# Altium schematic symbol library SamacSys.SchLib: 337 symbols (part 1 of 4)
Pins are listed as number, name and electrical type; pins without a type are passive.

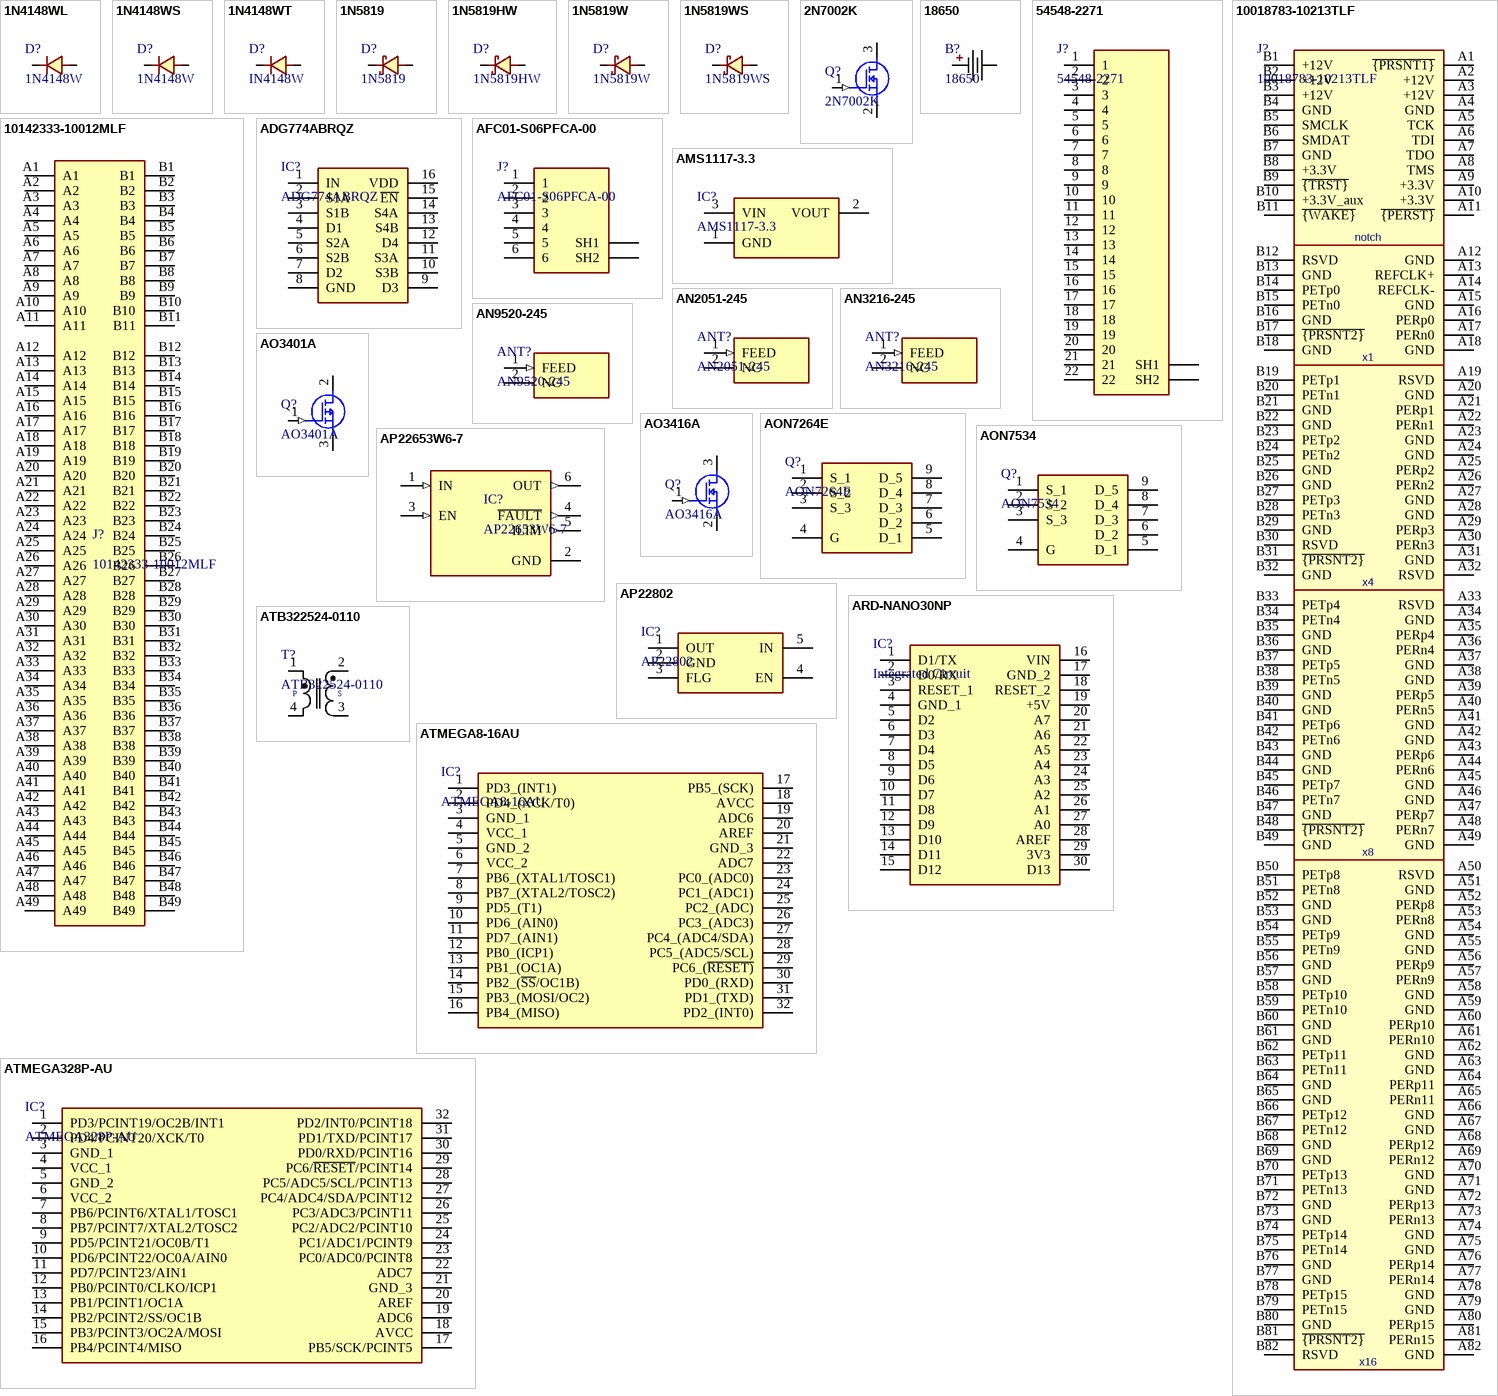
[diagram p0: symbols 1N4148WL to ATMEGA328P-AU]

## 1N4148WL
designator D?, comment 1N4148W
Diode, SMD, SOD-123FL, 100V, 150mA, 8ns, 1.25V@150mA, Independent Type, Switching Diodes, ROHS; Manufacturer_Name: Rectron; Datasheet Link: https://www.rectron.com/public/product_datasheets/1n4148w.pdf; Height: 1.25mm; Manufacturer_Part_Number: 1N4148W; Mouser Part Number: 583-1N4148W; Mouser Price/Stock: https://www.mouser.co.uk/ProductDetail/Rectron/1N4148W?qs=rrS6PyfT74dlwuw0ST2zKA%3D%3D; Arrow Part Number: 1N4148W; Arrow Price/Stock: https://www.arrow.com/en/products/1n4148w/rectron?region=nac; Value: 1N4148W
footprint SOD3716X125N
pins: 1 Kathode, 2 Anode

## 1N4148WS
designator D?, comment 1N4148W
Diode, SMD, SOD-323F, 100V, 250mA, 4ns, 1.25V@150mA, Independent Type, Switching Diodes ROHS; Manufacturer_Name: Rectron; Datasheet Link: https://www.rectron.com/public/product_datasheets/1n4148w.pdf; Height: 1.25mm; Manufacturer_Part_Number: 1N4148W; Mouser Part Number: 583-1N4148W; Mouser Price/Stock: https://www.mouser.co.uk/ProductDetail/Rectron/1N4148W?qs=rrS6PyfT74dlwuw0ST2zKA%3D%3D; Arrow Part Number: 1N4148W; Arrow Price/Stock: https://www.arrow.com/en/products/1n4148w/rectron?region=nac; Value: 1N4148W
footprint SODFL2513X100N
pins: 1 Kathode, 2 Anode

## 1N4148WT
designator D?, comment IN4148W
Diode, SMD, SOD-523, 80V, 125mA, 4ns, 1.25V@150mA, Independent Type, Switching Diodes, ROHS; Height: 0.7mm; Value: IN4148W
footprint SODFL1608X70N
pins: 1 Kathode, 2 Anode

## 1N5819
designator D?
Diode Schottky, DO-41, 30A, Independent, 40V, 900mV@3A, 1A, Single Diodes, RoHS; Datasheet Link: https://datasheet.lcsc.com/szlcsc/Shandong-Jingdao-Microelectronics-1N5819W_C169540.pdf; Height: 1.1mm; Value: 1N5819
footprint DO-41/DO-214AC_THD/SMD_THD
footprint DO-41_THD (DO-41 Package)
footprint DO-41/DO-214AC_VERTICAL_SMD/THD_THD (DO-41 Package)
pins: 1 Kathode, 2 Anode

## 1N5819HW
designator D?
Diode Schottky, SMD, SOD-123, 40V, 1A, 450mV@1A, Schottky Diodes, ROHS; Datasheet Link: https://datasheet.datasheetarchive.com/originals/distributors/Datasheets-24/DSA-463612.pdf; Height: 2.5mm; Value: 1N5819HW
footprint SOD3715X145N
pins: 1 Kathode, 2 Anode

## 1N5819W
designator D?
Diode Schottky, SMD, SOD-123, 40V, 350mA, 600mV@200mA, Independent Type, Schottky Diodes, ROHS; Datasheet Link: https://datasheet.lcsc.com/szlcsc/Shandong-Jingdao-Microelectronics-1N5819W_C169540.pdf; Height: 1.1mm; Value: 1N5819W
footprint SODFL3618X110N
pins: 1 Kathode, 2 Anode

## 1N5819WS
designator D?
Diode Schottky, SMD, SOD-323, 40V, 1A, 600mV@1A, Schottky Diodes, ROHS; Datasheet Link: https://datasheet.lcsc.com/szlcsc/Shandong-Jingdao-Microelectronics-1N5819W_C169540.pdf; Height: 1.1mm; Value: 1N5819WS
footprint SOD-323
pins: 1 Kathode, 2 Anode

## 2N7002K
designator Q?
MOSFET (N-Channel), SOT-23, 60V, 300mA, 2Ω@10V, 1.4W, 2.5V, MOSFETs, ROHS; Manufacturer_Name: Vishay; Manufacturer_Part_Number: SQ3426EV-T1_BE3; Datasheet Link: https://www.vishay.com/docs/65107/sq3426ev.pdf; Height: 1.1mm; Mouser Part Number: 78-SQ3426EV-T1_BE3; Mouser Price/Stock: https://www.mouser.co.uk/ProductDetail/Vishay-Siliconix/SQ3426EV-T1_BE3?qs=TiOZkKH1s2Qv9PW0sRGupQ%3D%3D; Arrow Part Number: SQ3426EV-T1_BE3; Arrow Price/Stock: https://www.arrow.com/en/products/sq3426ev-t1-be3/vishay?region=nac; Value: 2N7002K
footprint SOT95P240X120-3N
pins: 1 G (in), 2 S (power), 3 D (power)

## 18650
designator B?
Battery Holder 18650; Value: 18650
footprint 18650 SINGLE (18650, CR123A Battery Holder)
footprint 18650 CELL (18650, CR123A Battery Holder)
footprint 18650 2P HOLDER (18650, CR123A Battery Holder)
pins: 1 (power), 2 (power)

## 54548-2271
designator J?
FPC (Flat Flexible) Connector Assemblie, Drawer Type, 22P, Bottom Contact, Surface Mount, Horizontal attachment, 0.5mm SMD, P=0.5mm, Right Angle FFC, FPC (Flat Flexible) Connector Assemblies, ROHS; MF: Molex; Package: None; Value: 54548-2271; Price: None; MP: 54548-2271; SnapEDA_Link: https://www.snapeda.com/parts/54548-2271/Molex/view-part/2876175/?ref=snap; Availability: Unavailable
footprint MOLEX_54548-2271
pins: 1, 2, 3, 4, 5, 6, 7, 8, 9, 10, 11, 12, 13, 14, 15, 16, 17, 18, 19, 20, 21, 22, SH1, SH2

## 10018783-10213TLF
designator J?
Card Edge Connector, THD, 164 Positions, 1mm Pitch, PCI Express x16, Vertical, Card Edge Connectors, ROHS; MF: Amphenol ICC (FCI); MP: 10142333-10012MLF; SnapEDA_Link: https://www.snapeda.com/parts/10142333-10012MLF/Amphenol+FCI/view-part/?ref=snap; Package: None; Value: 10018783-10213TLF; Check_prices: https://www.snapeda.com/parts/10142333-10012MLF/Amphenol+FCI/view-part/?ref=eda
footprint AMPHENOL_10018783-10213TLF
pins: A1 ~{{PRSNT1}}, A2 +12V, A3 +12V, A4 GND, A5 TCK, A6 TDI, A7 TDO, A8 TMS, A9 +3.3V, A10 +3.3V, A11 ~{{PERST}}, A12 GND, A13 REFCLK+, A14 REFCLK-, A15 GND, A16 PERp0, A17 PERn0, A18 GND, A19 RSVD, A20 GND, A21 PERp1, A22 PERn1, A23 GND, A24 GND, A25 PERp2, A26 PERn2, A27 GND, A28 GND, A29 PERp3, A30 PERn3, A31 GND, A32 RSVD, A33 RSVD, A34 GND, A35 PERp4, A36 PERn4, A37 GND, A38 GND, A39 PERp5, A40 PERn5, A41 GND, A42 GND, A43 PERp6, A44 PERn6, A45 GND, A46 GND, A47 PERp7, A48 PERn7, A49 GND, A50 RSVD, A51 GND, A52 PERp8, A53 PERn8, A54 GND, A55 GND, A56 PERp9, A57 PERn9, A58 GND, A59 GND, A60 PERp10, A61 PERn10, A62 GND, A63 GND, A64 PERp11, A65 PERn11, A66 GND, A67 GND, A68 PERp12, A69 PERn12, A70 GND, A71 GND, A72 PERp13, A73 PERn13, A74 GND, A75 GND, A76 PERp14, A77 PERn14, A78 GND, A79 GND, A80 PERp15, A81 PERn15, A82 GND, B1 +12V, B2 +12V, B3 +12V, B4 GND, B5 SMCLK, B6 SMDAT, B7 GND, B8 +3.3V, B9 ~{{TRST}}, B10 +3.3V_aux, B11 ~{{WAKE}}, B12 RSVD, B13 GND, B14 PETp0, B15 PETn0, B16 GND, B17 ~{{PRSNT2}}, B18 GND, B19 PETp1, B20 PETn1, B21 GND, B22 GND, B23 PETp2, B24 PETn2, B25 GND, B26 GND, B27 PETp3, B28 PETn3, B29 GND, B30 RSVD, B31 ~{{PRSNT2}}, B32 GND, B33 PETp4, B34 PETn4, B35 GND, B36 GND, B37 PETp5, B38 PETn5, B39 GND, B40 GND, B41 PETp6, B42 PETn6, B43 GND, B44 GND, B45 PETp7, B46 PETn7, B47 GND, B48 ~{{PRSNT2}}, B49 GND, B50 PETp8, B51 PETn8, B52 GND, B53 GND, B54 PETp9, B55 PETn9, B56 GND, B57 GND, B58 PETp10, B59 PETn10, B60 GND, B61 GND, B62 PETp11, B63 PETn11, B64 GND, B65 GND, B66 PETp12, B67 PETn12, B68 GND, B69 GND, B70 PETp13, B71 PETn13, B72 GND, B73 GND, B74 PETp14, B75 PETn14, B76 GND, B77 GND, B78 PETp15, B79 PETn15, B80 GND, B81 ~{{PRSNT2}}, B82 RSVD
text: notch; x1; x4; x8; x16

## 10142333-10012MLF
designator J?
Card Edge Connector, THD, 98 Positions, 1mm Pitch, PCI Express x8, Vertical, Card Edge Connectors, ROHS; MF: Amphenol ICC (FCI); SnapEDA_Link: https://www.snapeda.com/parts/10142333-10012MLF/Amphenol+FCI/view-part/?ref=snap; Package: None; Value: 10142333-10012MLF; MP: 10142333-10012MLF; Check_prices: https://www.snapeda.com/parts/10142333-10012MLF/Amphenol+FCI/view-part/?ref=eda
footprint AMPHENOL_10142333-10012MLF
pins: A1, A2, A3, A4, A5, A6, A7, A8, A9, A10, A11, A12, A13, A14, A15, A16, A17, A18, A19, A20, A21, A22, A23, A24, A25, A26, A27, A28, A29, A30, A31, A32, A33, A34, A35, A36, A37, A38, A39, A40, A41, A42, A43, A44, A45, A46, A47, A48, A49, B1, B2, B3, B4, B5, B6, B7, B8, B9, B10, B11, B12, B13, B14, B15, B16, B17, B18, B19, B20, B21, B22, B23, B24, B25, B26, B27, B28, B29, B30, B31, B32, B33, B34, B35, B36, B37, B38, B39, B40, B41, B42, B43, B44, B45, B46, B47, B48, B49

## ADG774ABRQZ
designator IC?
Multiplexer, QSOP-16-150mil,  Analog Switches, Multiplexers, ROHS; Datasheet Link: http://www.analog.com/media/en/technical-documentation/data-sheets/ADG774A.pdf; Height: 1.75mm; Value: ADG774ABRQZ
footprint SOP64P600X175-16N
pins: 1 IN, 2 S1A, 3 S1B, 4 D1, 5 S2A, 6 S2B, 7 D2, 8 GND, 9 D3, 10 S3B, 11 S3A, 12 D4, 13 S4B, 14 S4A, 15 ~{EN}, 16 VDD

## AFC01-S06PFCA-00
designator J?
FPC (Flat Flexible) Connector Assemblie, Hinged Lid, 6P, Bottom Contact, Surface Mount, Right Angle, 0.5mm SMD, P=0.5mm, Surface Mount, Right Angle FFC, FPC (Flat Flexible) Connector Assemblies, ROHS; MF: Molex; MP: 54548-2271; Package: None; Value: AFC01-S06PFCA-00; Price: None; SnapEDA_Link: https://www.snapeda.com/parts/54548-2271/Molex/view-part/2876175/?ref=snap; Availability: Unavailable
footprint AFC01-S06PFCA-00
pins: 1, 2, 3, 4, 5, 6, SH1, SH2

## AMS1117-3.3
designator IC?
Low Drop Out (LDO) Regulator, SOT-223, SOT-89-3, 72dB@(120Hz), 1A, Fixed 3.3V, Positive electrode, 16V, Voltage Regulators - Linear, Low Drop Out (LDO) Regulators, ROHS; Datasheet Link: https://datasheet.datasheetarchive.com/originals/distributors/Datasheets-28/DSA-550594.pdf; Height: 1.8mm; Value: AMS1117-3.3
footprint SOT229P700X180-4N
footprint SOT-89-3 (SOT89, 3-Leads, Body 4.50x2.50mm, Pitch 1.50mm, Lead Span 3.3mm, IPC Medium Density)
pins: 1 GND, 2 VOUT, 3 VIN

## AN2051-245
designator ANT?
Antenna, SMD, 2x5.1mm, 2, 0.5dBi, 110MHz, 2.45GHz, Antennas ROHS; Manufacturer_Name: RAINBOW SW INDUSTRY  CO.,LIMITED; Datasheet Link: https://www.micros.com.pl/mediaserver/info-rf%20an2051-245.pdf; Height: 1.27mm; Manufacturer_Part_Number: AN2051-245; Value: AN2051-245
footprint ANTC2051
pins: 1 FEED (in), 2 NC

## AN3216-245
designator ANT?
Antenna, SMD, 1206, 2.5, 0.5dBi, 100MHz, 2.45GHz, 1W, Antennas ROHS; Manufacturer_Name: RAINBOW SW INDUSTRY  CO.,LIMITED; Manufacturer_Part_Number: AN2051-245; Datasheet Link: https://www.micros.com.pl/mediaserver/info-rf%20an2051-245.pdf; Height: 1.27mm; Value: AN3216-245
footprint ANTC3216
pins: 1 FEED (in), 2 NC

## AN9520-245
designator ANT?
Antenna, SMD, 2.1x9.5mm, 1.5dBi, Patch Antenna, 200MHz, 2.45GHz, 3W, Antennas ROHS; Manufacturer_Name: RAINBOW SW INDUSTRY  CO.,LIMITED; Manufacturer_Part_Number: AN2051-245; Datasheet Link: https://www.micros.com.pl/mediaserver/info-rf%20an2051-245.pdf; Height: 1.27mm; Value: AN9520-245
footprint ANTC9520
pins: 1 FEED (in), 2 NC

## AO3401A
designator Q?
MOSFET (P-Channel), SOT-23, 30V, 4A, 1.3V, P-channel MOSFETs, ROHS; MF: Alpha & Omega Semiconductor; SnapEDA_Link: https://www.snapeda.com/parts/AO3401A/Alpha/view-part/?ref=snap; Package: SOT-23 Alpha &amp; Omega Semiconductor; Value: AO3401A; MP: AO3401A; Check_prices: https://www.snapeda.com/parts/AO3401A/Alpha/view-part/?ref=eda
footprint SOT95P240X120-3N
pins: 1 G (in), 2 D (power), 3 S (power)

## AO3416A
designator Q?
MOSFET (N-Channel), SOT-23, 20V, 6.5A, 0.025Ω@4.5V, 1.4W, 1.1V, MOSFETs, ROHS; Manufacturer_Name: Vishay; Manufacturer_Part_Number: SQ3426EV-T1_BE3; Datasheet Link: https://www.vishay.com/docs/65107/sq3426ev.pdf; Height: 1.1mm; Mouser Part Number: 78-SQ3426EV-T1_BE3; Mouser Price/Stock: https://www.mouser.co.uk/ProductDetail/Vishay-Siliconix/SQ3426EV-T1_BE3?qs=TiOZkKH1s2Qv9PW0sRGupQ%3D%3D; Arrow Part Number: SQ3426EV-T1_BE3; Arrow Price/Stock: https://www.arrow.com/en/products/sq3426ev-t1-be3/vishay?region=nac; Value: AO3416A
footprint SOT95P240X120-3N
pins: 1 G (in), 2 S (power), 3 D (power)

## AON7264E
designator Q?
MOSFET (N-Channel), DFN-8(3x3), 60V, 28A, 11W, 13.3mΩ@4.5V, 28A, 1.8V, 1 N-channel, MOSFETs, ROHS; Value: AON7264E
footprint DFN-8-EP(3x3)
pins: 1 S_1, 2 S_2, 3 S_3, 4 G, 5 D_1, 6 D_2, 7 D_3, 8 D_4, 9 D_5

## AON7534
designator Q?
MOSFET (N-Channel), DFN-8(3x3), 30V, 30A, 23W, 8.5mΩ@4.5V, 30A, 1.8V, 1 N-channel, MOSFETs, ROHS; Manufacturer_Name: Alpha & Omega Semiconductors; Datasheet Link: http://www.aosmd.com/res/data_sheets/AON7534.pdf; Height: 0.9mm; Manufacturer_Part_Number: AON7534; Arrow Part Number: AON7534; Arrow Price/Stock: https://www.arrow.com/en/products/aon7534/alpha-and-omega-semiconductor?utm_currency=USD&region=nac; Value: AON7534
footprint DFN-8-EP(3x3)
pins: 1 S_1, 2 S_2, 3 S_3, 4 G, 5 D_1, 6 D_2, 7 D_3, 8 D_4, 9 D_5

## AP22653W6-7
designator IC?
Power Distribution Switch, SOT-26, 1, Active High, 2.1A, High Side, Switch Power Distribution Switches, Load Drivers, RoHS; MF: Diodes Incorporated; SnapEDA_Link: https://www.snapeda.com/parts/AP22653W6-7/Diodes+Inc./view-part/?ref=snap; Package: SOT-23-6 Diodes Incorporated; Value: AP22653W6-7; MP: AP22653W6-7; Check_prices: https://www.snapeda.com/parts/AP22653W6-7/Diodes+Inc./view-part/?ref=eda
footprint SOT95P280X145-6N
pins: 1 IN (in), 2 GND (power), 3 EN (in), 4 ~{FAULT} (out), 5 ILIM (out), 6 OUT (out)

## AP22802
designator IC?
Power Distribution Switch, SOT-23-5, SOT-25, 2.7V~5.5V, 50mΩ, Active Low, 2A, 1 High-side switch, Power Distribution Switches, ROHS; Value: AP22802
footprint SOT95P285X145-5N
pins: 1 OUT (power), 2 GND (power), 3 FLG (power), 4 EN (power), 5 IN (power)

## ARD-NANO30NP
designator IC?, comment Integrated Circuit
Development Board, Arduino Nano v3.0; Datasheet Link: http://www.mouser.com/datasheet/2/595/Arduino_Nano3_0-220057.pdf; Height: 5mm; Value: Integrated Circuit
footprint ARDNANO30NP
pins: 1 D1/TX, 2 D0/RX, 3 RESET_1, 4 GND_1, 5 D2, 6 D3, 7 D4, 8 D5, 9 D6, 10 D7, 11 D8, 12 D9, 13 D10, 14 D11, 15 D12, 16 VIN, 17 GND_2, 18 RESET_2, 19 +5V, 20 A7, 21 A6, 22 A5, 23 A4, 24 A3, 25 A2, 26 A1, 27 A0, 28 AREF, 29 3V3, 30 D13

## ATB322524-0110
designator T?
Power Transformer, SMD-4P, 1:10.2, 3.2x2.5mm, Power Transformers, ROHS; MF: TDK; SnapEDA_Link: https://www.snapeda.com/parts/ATB322524-0110/TDK/view-part/?ref=snap; Package: None; Value: ATB322524-0110; MP: ATB322524-0110; Check_prices: https://www.snapeda.com/parts/ATB322524-0110/TDK/view-part/?ref=eda
footprint ATB322524
pins: 1, 2, 3, 4
text: P; S

## ATMEGA8-16AU
designator IC?
Microcontroller, TQFP-32(7x7), 8-bit AVR, 16MHz, Microcontrollers (MCU/MPU/SOC), ROHS; Datasheet Link: http://ww1.microchip.com/downloads/en/DeviceDoc/Atmel-2486-8-bit-AVR-microcontroller-ATmega8_L_datasheet.pdf; Height: 1.2mm; Value: ATMEGA8-16AU
footprint QFP80P900X900X120-32N
pins: 1 PD3_(INT1), 2 PD4_(XCK/T0), 3 GND_1, 4 VCC_1, 5 GND_2, 6 VCC_2, 7 PB6_(XTAL1/TOSC1), 8 PB7_(XTAL2/TOSC2), 9 PD5_(T1), 10 PD6_(AIN0), 11 PD7_(AIN1), 12 PB0_(ICP1), 13 PB1_(OC1A), 14 PB2_(~{SS}/OC1B), 15 PB3_(MOSI/OC2), 16 PB4_(MISO), 17 PB5_(SCK), 18 AVCC, 19 ADC6, 20 AREF, 21 GND_3, 22 ADC7, 23 PC0_(ADC0), 24 PC1_(ADC1), 25 PC2_(ADC), 26 PC3_(ADC3), 27 PC4_(ADC4/SDA), 28 PC5_(ADC5/SCL), 29 PC6_(~{RESET)}, 30 PD0_(RXD), 31 PD1_(TXD), 32 PD2_(INT0)

## ATMEGA328P-AU
designator IC?
Microcontroller, TQFP-32(7x7), AVR, 20MHz, Microcontrollers (MCU/MPU/SOC), ROHS; Datasheet Link: https://componentsearchengine.com/Datasheets/2/ATMEGA328P-AU.pdf; Height: 1.2mm; Value: ATMEGA328P-AU
footprint QFP80P900X900X120-32N
footprint QFP80P900X900X120-32N WITH SPI INTERFACE 2.00
footprint QFP80P900X900X120-32N WITH SPI INTERFACE 2.54
footprint QFN50P500X500X100-33N-D
pins: 1 PD3/PCINT19/OC2B/INT1, 2 PD4/PCINT20/XCK/T0, 3 GND_1, 4 VCC_1, 5 GND_2, 6 VCC_2, 7 PB6/PCINT6/XTAL1/TOSC1, 8 PB7/PCINT7/XTAL2/TOSC2, 9 PD5/PCINT21/OC0B/T1, 10 PD6/PCINT22/OC0A/AIN0, 11 PD7/PCINT23/AIN1, 12 PB0/PCINT0/CLKO/ICP1, 13 PB1/PCINT1/OC1A, 14 PB2/PCINT2/SS/OC1B, 15 PB3/PCINT3/OC2A/MOSI, 16 PB4/PCINT4/MISO, 17 PB5/SCK/PCINT5, 18 AVCC, 19 ADC6, 20 AREF, 21 GND_3, 22 ADC7, 23 PC0/ADC0/PCINT8, 24 PC1/ADC1/PCINT9, 25 PC2/ADC2/PCINT10, 26 PC3/ADC3/PCINT11, 27 PC4/ADC4/SDA/PCINT12, 28 PC5/ADC5/SCL/PCINT13, 29 PC6/~{RESET}/PCINT14, 30 PD0/RXD/PCINT16, 31 PD1/TXD/PCINT17, 32 PD2/INT0/PCINT18

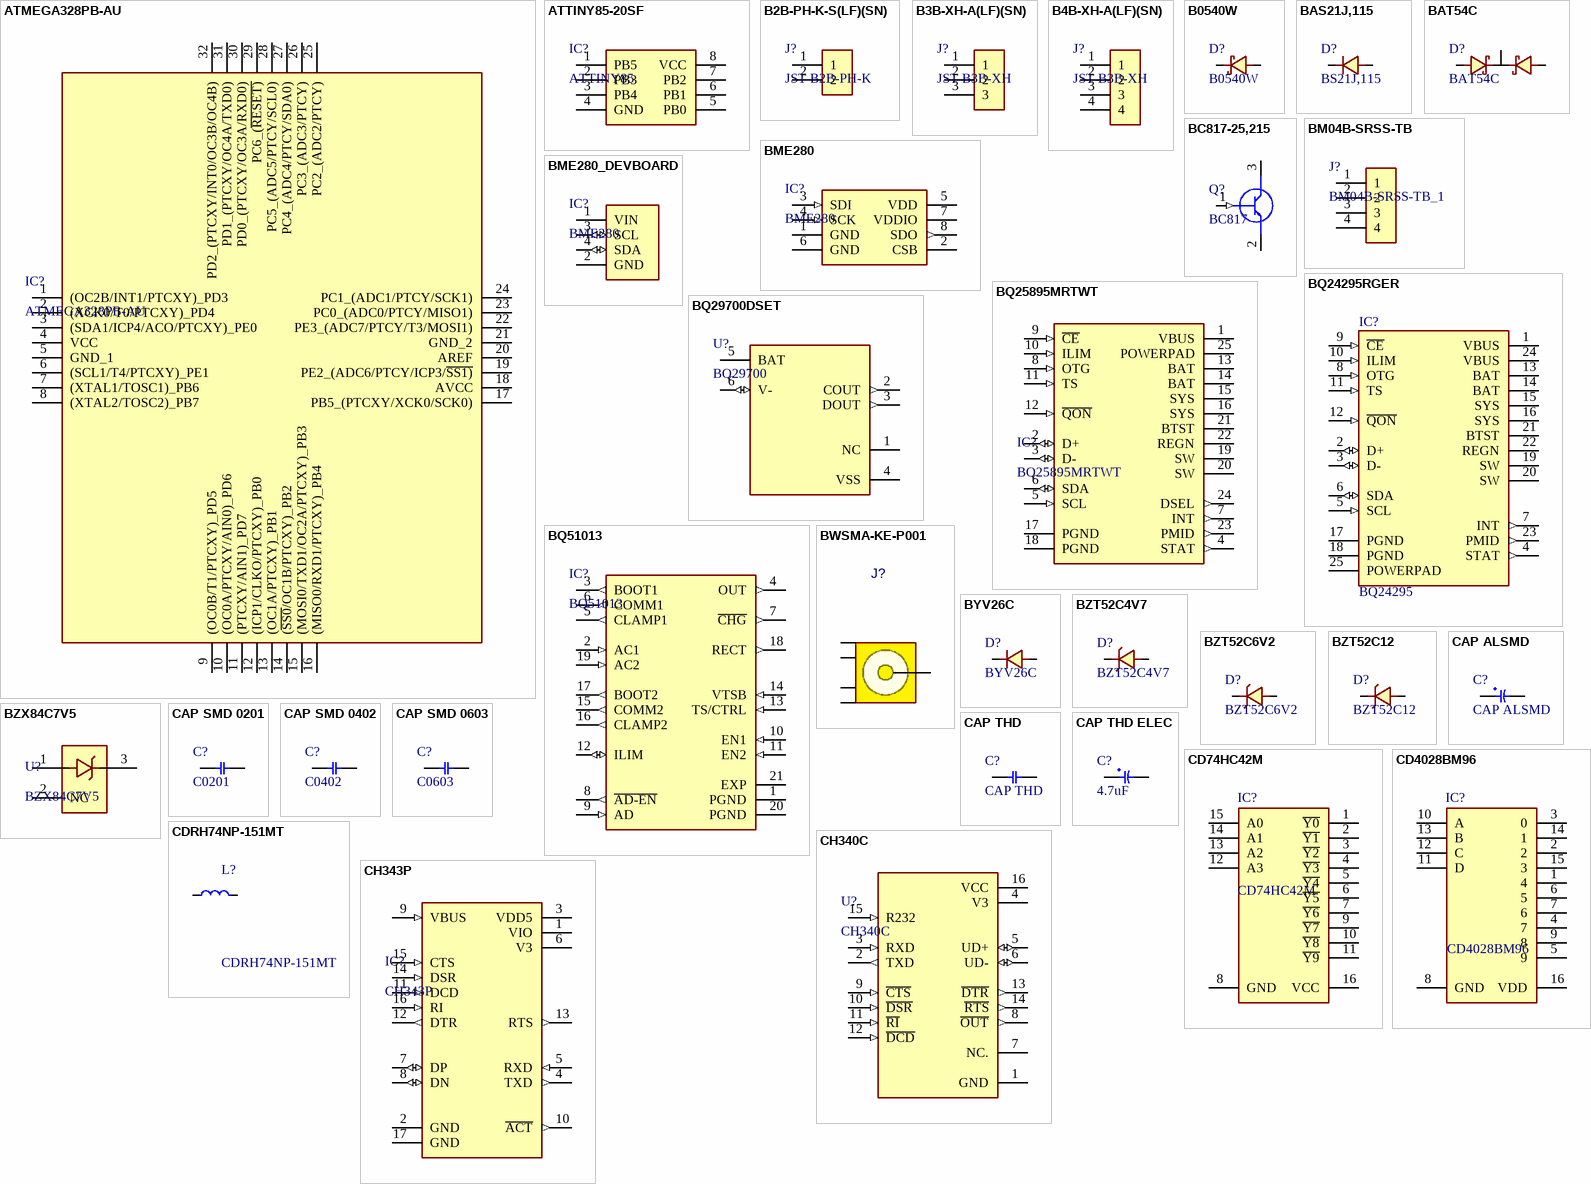
[diagram p1: symbols ATMEGA328PB-AU to CH343P]

## ATMEGA328PB-AU
designator IC?
Microcontroller, TQFP-32(7x7), AVR, 20MHz, Microcontrollers (MCU/MPU/SOC), ROHS; Datasheet Link: http://www.farnell.com/datasheets/2014286.pdf; Height: 1.2mm; Value: ATMEGA328PB-AU
footprint QFP80P900X900X120-32N
footprint QFP80P900X900X120-32N WITH SPI INTERFACE 2.00
footprint QFP80P900X900X120-32N WITH SPI INTERFACE 2.54
pins: 1 (OC2B/INT1/PTCXY)_PD3, 2 (XCK0/T0/PTCXY)_PD4, 3 (SDA1/ICP4/ACO/PTCXY)_PE0, 4 VCC, 5 GND_1, 6 (SCL1/T4/PTCXY)_PE1, 7 (XTAL1/TOSC1)_PB6, 8 (XTAL2/TOSC2)_PB7, 9 (OC0B/T1/PTCXY)_PD5, 10 (OC0A/PTCXY/AIN0)_PD6, 11 (PTCXY/AIN1)_PD7, 12 (ICP1/CLKO/PTCXY)_PB0, 13 (OC1A/PTCXY)_PB1, 14 (~{SS0}/OC1B/PTCXY)_PB2, 15 (MOSI0/TXD1/OC2A/PTCXY)_PB3, 16 (MISO0/RXD1/PTCXY)_PB4, 17 PB5_(PTCXY/XCK0/SCK0), 18 AVCC, 19 PE2_(ADC6/PTCY/ICP3/~{SS1)}, 20 AREF, 21 GND_2, 22 PE3_(ADC7/PTCY/T3/MOSI1), 23 PC0_(ADC0/PTCY/MISO1), 24 PC1_(ADC1/PTCY/SCK1), 25 PC2_(ADC2/PTCY), 26 PC3_(ADC3/PTCY), 27 PC4_(ADC4/PTCY/SDA0), 28 PC5_(ADC5/PTCY/SCL0), 29 PC6_(~{RESET)}, 30 PD0_(PTCXY/OC3A/RXD0), 31 PD1_(PTCXY/OC4A/TXD0), 32 PD2_(PTCXY/INT0/OC3B/OC4B)

## ATTINY85-20SF
designator IC?, comment ATTINY85
Microcontroller, SOIC-8-208mil, AVR, 20MHz, Microcontrollers (MCU/MPU/SOC), ROHS; Datasheet Link: http://ww1.microchip.com/downloads/en/DeviceDoc/Atmel-2586-AVR-8-bit-Microcontroller-ATtiny25-ATtiny45-ATtiny85_Datasheet.pdf; Height: 2.16mm; Value: ATTINY85
footprint SOIC127P798X216-8N
pins: 1 PB5, 2 PB3, 3 PB4, 4 GND, 5 PB0, 6 PB1, 7 PB2, 8 VCC

## B2B-PH-K-S(LF)(SN)
designator J?, comment JST B2B-PH-K
Wire To Board Connector, 1x2P, 2P, PH, Tin 2, -25℃~+85℃, 2A, 1, 2mm, Brass, Direct Insert, Plugin, P=2mm,  Wire To Board Connector, ROHS; Value: JST B2B-PH-K
footprint JST B2B-PH-K (Connector 2mm)
pins: 1, 2

## B3B-XH-A(LF)(SN)
designator J?, comment JST B3B-XH
Wire To Board Connector, 1x3P, 3P, XH, Tin 3, -25℃~+85℃, 3A, 1, 2.5mm, Brass, Direct Insert, Plugin, P=2.5mm, Wire To Board Connector, ROHS; Value: JST B3B-XH
footprint JST B3B-XH (Pitch 2.54mm, 3 Pin)
pins: 1, 2, 3

## B4B-XH-A(LF)(SN)
designator J?, comment JST B3B-XH
Wire To Board Connector, 1x4P, 4P, XH, Tin 4, -25℃~+85℃, 3A, 1, 2.5mm, Brass, Direct Insert, Plugin, P=2.5mm, Wire To Board Connector, ROHS; Value: JST B3B-XH
footprint JST B4B-XH (Pitch 2.54mm, 4 Pin)
pins: 1, 2, 3, 4

## B0540W
designator D?
Diode Schottky, SMD, SOD-123, 40V, 500mA, 510mV@500mA, Independent Type, Schottky Diodes, ROHS; MF: Taiwan Semiconductor; MP: B0540W RHG; SnapEDA_Link: https://www.snapeda.com/parts/B0540W%20RHG/Taiwan+Semiconductor/view-part/?ref=snap; Package: SOD-123-2 Taiwan Semiconductor; Value: B0540W; Check_prices: https://www.snapeda.com/parts/B0540W%20RHG/Taiwan+Semiconductor/view-part/?ref=eda
footprint SOD-123FL (SMD Package)
pins: 1 Kathode, 2 Anode

## BAS21J,115
designator D?, comment BS21J,115
Diode, SMD, SOD-323F, 300V, 250mA, 3A, 1.1V@100mA, 50ns, Independent, Single Diodes, RoHS; Manufacturer_Name: Rectron; Manufacturer_Part_Number: 1N4148W; Datasheet Link: https://www.rectron.com/public/product_datasheets/1n4148w.pdf; Height: 1.25mm; Mouser Part Number: 583-1N4148W; Mouser Price/Stock: https://www.mouser.co.uk/ProductDetail/Rectron/1N4148W?qs=rrS6PyfT74dlwuw0ST2zKA%3D%3D; Arrow Part Number: 1N4148W; Arrow Price/Stock: https://www.arrow.com/en/products/1n4148w/rectron?region=nac; Value: BS21J,115
footprint SODFL2512X80N
pins: 1 Kathode, 2 Anode

## BAT54C
designator D?
Diode Schottky, SMD, SOT-23, 30V, 200mA, 800mV@100mA, 1 Pair Of Common Cathodes, Schottky Diodes, ROHS; Manufacturer_Name: Nexperia; Manufacturer_Part_Number: BAT54C,215; Datasheet Link: https://assets.nexperia.com/documents/data-sheet/BAT54_SER.pdf; Height: 1.1mm; Mouser Part Number: 771-BAT54C-T/R; Mouser Price/Stock: https://www.mouser.co.uk/ProductDetail/Nexperia/BAT54C215?qs=me8TqzrmIYV5SKKt13YKQA%3D%3D; Arrow Part Number: BAT54C,215; Arrow Price/Stock: https://www.arrow.com/en/products/bat54c215/nexperia?region=europe; Value: BAT54C
footprint SOT95P240X120-3N
pins: 1 Anode, 2 Anode, 3 Kathode

## BC817-25,215
designator Q?, comment BC817
Transistor Bipolar (BJT), NPN, SOT-23, 45V, 345mW, 160@100mA,1V, 500mA, Bipolar (BJT) ROHS; Datasheet Link: https://assets.nexperia.com/documents/data-sheet/BC817_SER.pdf; Height: 1.1mm; Value: BC817
footprint SOT95P230X110-3N
pins: 1 B (in), 2 E (power), 3 C (power)

## BM04B-SRSS-TB
designator J?, comment BM04B-SRSS-TB_1
Header, 4P, 1x4P, SH Tin, -25℃~+85℃, White, 1mm, 50V, 4, 1A, 1, Surface Mount, Vertical SMD, P=1mm, Headers, Male Pins, RoHS; MF: JST Sales; SnapEDA_Link: https://www.snapeda.com/parts/BM04B-SRSS-TB/JST/view-part/?ref=snap; Package: None; Value: BM04B-SRSS-TB_1; MP: BM04B-SRSS-TB; Check_prices: https://www.snapeda.com/parts/BM04B-SRSS-TB/JST/view-part/?ref=eda
footprint CONN4_BM04B-SRSS_JST
pins: 1, 2, 3, 4

## BME280
designator IC?
Temperature and Humidity Sensor, LGA-8(2.5x2.5), Temperature and Humidity Sensor, ROHS; Value: BME280
footprint BME280
pins: 1 GND (power), 2 CSB (power), 3 SDI (in), 4 SCK (in), 5 VDD (power), 6 GND (power), 7 VDDIO (power), 8 SDO (out)

## BME280_DEVBOARD
designator IC?, comment BME280
Development Board, LGA-8(2.5x2.5), Temperature and Humidity Sensor, ROHS; Value: BME280
footprint BME280_DEVBOARD
pins: 1 VIN (power), 2 GND (power), 3 SCL (io), 4 SDA (io)

## BQ24295RGER
designator IC?, comment BQ24295
Battery Management, VQFN-24-EP(4x4), 3.9V~6.2V, Lithium-ion/Polymer S1, Battery Management, ROHS; Manufacturer_Name: Texas Instruments; Manufacturer_Part_Number: BQ24295RGER; Geometry.Height: 1mm; Mouser Part Number: 595-BQ24295RGER; Mouser Price/Stock: https://www.mouser.co.uk/ProductDetail/Texas-Instruments/BQ24295RGER?qs=igp4D3uu33JuaPeRfsSg2w%3D%3D; Arrow Part Number: BQ24295RGER; Arrow Price/Stock: https://www.arrow.com/en/products/bq24295rger/texas-instruments; Datasheet Link: http://www.ti.com/lit/ds/symlink/bq24295.pdf; Value: BQ24295
footprint QFN50P400X400X100-25N-D
pins: 1 VBUS (power), 2 D+ (io), 3 D- (io), 4 STAT (out), 5 SCL (in), 6 SDA (io), 7 INT (out), 8 OTG (in), 9 ~{CE} (in), 10 ILIM (in), 11 TS (in), 12 ~{QON} (in), 13 BAT (power), 14 BAT (power), 15 SYS (power), 16 SYS (power), 17 PGND (power), 18 PGND (power), 19 SW (power), 20 SW (power), 21 BTST (power), 22 REGN (power), 23 PMID (out), 24 VBUS, 25 POWERPAD (power)

## BQ25895MRTWT
designator IC?
Battery Management, WQFN-24-EP(4x4), 853.9V~14V, Lithium-ion/Polymer S1, 5A, Fast Charger, 3.1-A, Battery Management, ROHS; MF: Texas Instruments; Digi-Key_Part_Number: 296-42470-1-ND; Purchase-URL: https://pricing.snapeda.com/search/part/BQ25895MRTWT/?ref=eda; MP: BQ25895MRTWT; SnapEDA_Link: https://www.snapeda.com/parts/BQ25895MRTWT/Texas+Instruments/view-part/?ref=snap; Value: BQ25895MRTWT; Package: WQFN-24 Texas Instruments; Check_prices: https://www.snapeda.com/parts/BQ25895MRTWT/Texas+Instruments/view-part/?ref=eda
footprint QFN50P400X400X80-25N
pins: 1 VBUS (power), 2 D+ (io), 3 D- (io), 4 STAT (out), 5 SCL (in), 6 SDA (io), 7 INT (out), 8 OTG (in), 9 ~{CE} (in), 10 ILIM (in), 11 TS (in), 12 ~{QON} (in), 13 BAT (power), 14 BAT (power), 15 SYS (power), 16 SYS (power), 17 PGND (power), 18 PGND (power), 19 SW (power), 20 SW (power), 21 BTST (power), 22 REGN (power), 23 PMID (out), 24 DSEL (out), 25 POWERPAD (power)

## BQ29700DSET
designator U?, comment BQ29700
Battery Management, WSON-6(1.5x1.5), Li-Ion/Li Polymer Advanced Single-Cell Battery Protector IC Family, -40 to 85, Battery Management, ROHS; MF: Texas Instruments; MP: BQ29700DSER; Price: None; Value: BQ29700; Availability: Good; SnapEDA_Link: https://www.snapeda.com/parts/BQ29700DSER/Texas%20Instruments/view-part/535836/?ref=snap; Purchase-URL: https://pricing.snapeda.com/search/part/BQ29700DSER/?ref=eda; Package: WSON-6 Texas Instruments
footprint SON50P150X150X80-6N
pins: 1 NC, 2 COUT (out), 3 DOUT (out), 4 VSS (power), 5 BAT (power), 6 V- (io)

## BQ51013
designator IC?
Battery Management, VQFN-20(3.5x4.5), 8mA, 4V~7V, Wireless Charge-Discharge ICs, ROHS; MP: BQ51013BRHLT; MF: Texas Instruments; Texas_Instruments-Purchase-URL: https://snapeda.com/shop?store=Texas+Instruments&id=46178; DigiKey-Purchase-URL: https://snapeda.com/shop?store=DigiKey&id=46178; SnapEDA_Link: https://www.snapeda.com/parts/BQ51013BRHLT/Texas%20Instruments/view-part/46178/?ref=snap; Mouser-Purchase-URL: https://snapeda.com/shop?store=Mouser&id=46178; Value: BQ51013; Digi-Key_Part_Number: 296-35638-1-ND; Package: VQFN-20 Texas Instruments
footprint VQFN-20
pins: 1 PGND (power), 2 AC1 (in), 3 BOOT1 (out), 4 OUT (out), 5 CLAMP1 (out), 6 COMM1 (out), 7 ~{CHG} (out), 8 ~{AD-EN} (out), 9 AD (in), 10 EN1 (in), 11 EN2 (in), 12 ILIM (io), 13 TS/CTRL (in), 14 VTSB (in), 15 COMM2 (out), 16 CLAMP2 (out), 17 BOOT2 (out), 18 RECT (out), 19 AC2 (in), 20 PGND (power), 21 EXP (power)

## BWSMA-KE-P001
designator J?, comment CONN, RF, SMA  (value not drawn)
Coaxial Connector (RF) SMD, 1 Inner Hole, Board-End Staggered pins, 50Ω, 5.2mm, SMD Coaxial Connectors (RF) ROHS; MANF_P#: SMA-J-P-H-ST-EM1; MANF: Samtec; PARAM: 50Ohm, 20GHz; DESC: DESCRIPTION; DIST#: DIGIKEY; PARAM2: GOLD; ASSEMBLY: ASSEMBLY; PRICE: 4.3$; Value: CONN, RF, SMA
footprint SMA_EM (SMA-J-P-H-ST-EM1 edge mounting)
pins: 1 SIG, 2 G1, 3 G2, 4 G3, 5 G4

## BYV26C
designator D?
Diode, DO-41, 600V, 30A, 30ns, Independent, 2.5V@1A, 1A ,Single Diodes ROHS; Datasheet Link: https://www.alldatasheet.com/datasheet-pdf/pdf/2640/MOSPEC/HER106.html; Value: BYV26C
footprint DO-41_THD (DO-41 Package)
footprint DO-41_VERTICAL_THD (DO-41 Package)
footprint DO-41/DO-214AC_VERTICAL_SMD/THD_THD (DO-41 Package)
footprint DO-41/DO-214AC_THD/SMD_THD
pins: 1 Kathode, 2 Anode

## BZT52C4V7
designator D?
Diode Zener, SMD, SOD-123, 4.7V, 500mW, 4.4V~5V, Independent Type, Zener Diodes, ROHS; Manufacturer_Name: Vishay; Manufacturer_Part_Number: BZT52C12-HE3-08; Datasheet Link: http://www.vishay.com/docs/85760/bzt52.pdf; Height: 1.35mm; Mouser Part Number: 78-BZT52C12-HE3-08; Mouser Price/Stock: https://www.mouser.co.uk/ProductDetail/Vishay-Semiconductors/BZT52C12-HE3-08?qs=ESFF34Uzhwjcp2%252By2jOhYg%3D%3D; Arrow Part Number: BZT52C12-HE3-08; Arrow Price/Stock: https://www.arrow.com/en/products/bzt52c12-he3-08/vishay; Value: BZT52C4V7
footprint SOD-123FL (SMD Package)
pins: 1 Kathode, 2 Anode

## BZT52C6V2
designator D?
Diode Zener, SMD, SOD-123, 6.2V, 500mW, Independent Type, Zener Diodes, ROHS; Manufacturer_Name: Vishay; Manufacturer_Part_Number: BZT52C12-HE3-08; Datasheet Link: http://www.vishay.com/docs/85760/bzt52.pdf; Height: 1.35mm; Mouser Part Number: 78-BZT52C12-HE3-08; Mouser Price/Stock: https://www.mouser.co.uk/ProductDetail/Vishay-Semiconductors/BZT52C12-HE3-08?qs=ESFF34Uzhwjcp2%252By2jOhYg%3D%3D; Arrow Part Number: BZT52C12-HE3-08; Arrow Price/Stock: https://www.arrow.com/en/products/bzt52c12-he3-08/vishay; Value: BZT52C6V2
footprint SOD-123FL (SMD Package)
pins: 1 Kathode, 2 Anode

## BZT52C12
designator D?
Zener Diode, SMD, SOD-123, 12V, 11.4V~12.7V, Independent Type, Zener Diodes, ROHS; Manufacturer_Name: Vishay; Manufacturer_Part_Number: BZT52C12-HE3-08; Datasheet Link: http://www.vishay.com/docs/85760/bzt52.pdf; Height: 1.35mm; Mouser Part Number: 78-BZT52C12-HE3-08; Mouser Price/Stock: https://www.mouser.co.uk/ProductDetail/Vishay-Semiconductors/BZT52C12-HE3-08?qs=ESFF34Uzhwjcp2%252By2jOhYg%3D%3D; Arrow Part Number: BZT52C12-HE3-08; Arrow Price/Stock: https://www.arrow.com/en/products/bzt52c12-he3-08/vishay; Value: BZT52C12
footprint SOD3716X135N
pins: 1 Kathode, 2 Anode

## BZX84C7V5
designator U?
Diode Zener, SMD, SOT-23, 7.5V, 300mW, 7V~7.9V, Independent Type, Zener Diodes, ROHS; Manufacturer_Name: Diodes Incorporated; Datasheet Link: https://componentsearchengine.com/Datasheets/2/BZX84C7V5.pdf; Height: 1.2mm; Manufacturer_Part_Number: BZX84C7V5; Value: BZX84C7V5
footprint SOT95P240X120-3N
pins: 1 A, 2 NC, 3 K

## CAP ALSMD
designator C?
Capacitor, SMD, Aluminum Electrolytic; Value: CAP ALSMD
footprint CAP_SMD_ELEC_ALUM_5.3MM_H4.6MM (Aluminum SMD Electrolytic Capacitor, 5.30mm Land Size, 5.00mm Diameter, 4.60mm Height, 5.50mm Maximum Leads Span)
footprint CAP_SMD_ELEC_ALUM_6.3MM_H7.7MM (Aluminum SMD Electrolytic Capacitor, D: 6.3mm L: 7.7mm, Size D)
pins: 1, 2

## CAP SMD 0201
designator C?, comment C0201
Capacitor, SMD, 0201 (M0603); Datasheet Link: http://www.mouser.com/catalog/supplier/library/pdf/AVXSurfaceMountCeramic.pdf; Height: 0.33mm; Value: C0201
footprint CAP_SMD_MLCC_C0201_(M0603) (CHIP Capacitor, 0.5x0.25mm)
footprint CAP_SMD_MLCC_C0201A_(M0603A) (CHIP Capacitor, 0.5x0.25mm, for PCBA)
pins: 1, 2

## CAP SMD 0402
designator C?, comment C0402
Capacitor, SMD, 0402 (M1005); Datasheet Link: http://www.mouser.com/catalog/supplier/library/pdf/AVXSurfaceMountCeramic.pdf; Height: 0.56mm; Value: C0402
footprint CAP_SMD_MLCC_C0402_(M1005) (CHIP Capacitor, 1.0x0.5mm, 0402)
footprint CAP_SMD_MLCC_C0402A_(M1005A) (CHIP Capacitor, 1.0x0.5mm, 0402, for PCBA)
pins: 1, 2

## CAP SMD 0603
designator C?, comment C0603
Capacitor, SMD, 0603 (M1608); Datasheet Link: https://componentsearchengine.com/Datasheets/1/06031A100FAT2A.pdf; Height: 0.9mm; Value: C0603
footprint CAP_SMD_MLCC_C0603_(M1608) (CHIP Capacitor, 1.6x0.8mm, 0603)
footprint CAP_SMD_MLCC_C0603A_(M1608A) (CHIP Capacitor, 1.6x0.8mm, 0603 for PCBA)
footprint CAP 0603 WITH TH MULTILAYER CERAMIC CAPACITOR
pins: 1, 2

## CAP THD
designator C?
Capacitor, Through Hole, Ceramic; Datasheet Link: http://www.vishay.com/docs/45171/kseries.pdf; Height: 5.2mm; Value: CAP THD
footprint CAP_THD_CERML (Multilayer Ceramic Capacitor MLCC 50V dc ±10% , Through Hole)
pins: 1, 2

## CAP THD ELEC
designator C?, comment 4.7uF
Capacitor, Through Hole, Aluminum Electrolytic; Package: RADIAL-2 Panasonic; Value: 4.7uF
footprint CAP_THD_ELEC_ALUM_D8.0MM_H12.5MM (8MM Diameter, 3.5MM Lead Spacing Aluminium Capacitor)
footprint CAP_THD_ELEC_ALUM_D8.0MM_H12.5MM_SHORT (8MM Diameter, 3.5MM Lead Spacing Aluminium Capacitor)
pins: 1, 2

## CD74HC42M
designator IC?
Decoder, SOIC-16 , 5.2mA, 2V~6V, 5.2mA, Signal Switches, Multiplexers, Decoders, RoHS; Manufacturer_Name: Texas Instruments; Geometry.Height: 1.75mm; Manufacturer_Part_Number: CD74HC42M; Mouser Part Number: 595-CD74HC42M; Mouser Price/Stock: https://www.mouser.co.uk/ProductDetail/Texas-Instruments/CD74HC42M?qs=j01uVdFEFjHwlEUt4Jx08Q%3D%3D; Arrow Part Number: CD74HC42M; Arrow Price/Stock: https://www.arrow.com/en/products/cd74hc42m/texas-instruments?region=nac; Datasheet Link: http://www.ti.com/lit/gpn/CD74HC42; Value: CD74HC42M
footprint SOIC127P600X175-16N
pins: 1 ~{Y0}, 2 ~{Y1}, 3 ~{Y2}, 4 ~{Y3}, 5 ~{Y4}, 6 ~{Y5}, 7 ~{Y6}, 8 GND, 9 ~{Y7}, 10 ~{Y8}, 11 ~{Y9}, 12 A3, 13 A2, 14 A1, 15 A0, 16 VCC

## CD4028BM96
designator IC?
Decoder, SOIC-16, 6.8mA, 3V~18V, 6.8mA, Signal Switches, Multiplexers, Decoders RoHS; Manufacturer_Name: Texas Instruments; Geometry.Height: 1.75mm; Manufacturer_Part_Number: CD4028BM96; Mouser Part Number: 595-CD4028BM96; Mouser Price/Stock: https://www.mouser.co.uk/ProductDetail/Texas-Instruments/CD4028BM96?qs=2Yv9SV80M5hwXYvRUe8Qgw%3D%3D; Arrow Part Number: CD4028BM96; Arrow Price/Stock: https://www.arrow.com/en/products/cd4028bm96/texas-instruments?utm_currency=USD&region=nac; Datasheet Link: https://www.ti.com/lit/ds/symlink/cd4028b.pdf?ts=1623397506826&ref_url=https%253A%252F%252Fwww.ti.com%252Fstore%252Fti%252Fen%252Fp%252Fproduct%252F%253Fp%253DCD4028BM96; Value: CD4028BM96
footprint SOIC127P600X175-16N
pins: 1 4, 2, 3 0, 4 7, 5 9, 6 5, 7 6, 8 GND, 9 8, 10 A, 11 D, 12 C, 13 B, 14 1, 15 3, 16 VDD

## CDRH74NP-151MT
designator L?
Fixed Inductor, SMD, 7.3x7.3mm, 150uH, 880mΩ, 460mA, Shielded Inductor, ±20%, Fixed Inductors ROHS; Manufacturer_Name: Sumida; Manufacturer_Part_Number: CDRH74NP-151MC-B; Geometry.Height: 4.5mm; Arrow Part Number: CDRH74NP-151MC-B; Datasheet Link: https://componentsearchengine.com/Datasheets/1/CDRH74NP-220MC-B.pdf; Value: CDRH74NP-151MT
footprint CDRH74N
footprint XR6*8-151K-L_CDRH74N_SMD
pins: 1, 2

## CH340C
designator U?
USB Converter, SOP-16, 2Mbps Transceiver, USB 2.0, USB Converters,  ROHS; Value: CH340C
footprint SOIC127P600X180-16N
pins: 1 GND (power), 2 TXD (out), 3 RXD (in), 4 V3 (power), 5 UD+ (io), 6 UD- (io), 7 NC., 8 ~{OUT} (out), 9 ~{CTS} (in), 10 ~{DSR} (in), 11 ~{RI} (in), 12 ~{DCD} (in), 13 ~{DTR} (out), 14 ~{RTS} (out), 15 R232 (in), 16 VCC (power)

## CH343P
designator IC?
USB Converter, TQFN-16-EP(3x3), 6Mbps, USB to UART, USB 2.0, USB Converters, ROHS; MF: WCH; SnapEDA_Link: https://www.snapeda.com/parts/CH343P/WCH/view-part/?ref=snap; Price: None; Availability: Not in stock; Package: Package; Check_prices: https://www.snapeda.com/parts/CH343P/WCH/view-part/?ref=eda; Value: CH343P; MP: CH343P
footprint QFN50P300X300X80-17N
pins: 1 VIO (power), 2 GND (power), 3 VDD5 (power), 4 TXD (out), 5 RXD (in), 6 V3 (power), 7 DP (io), 8 DN (io), 9 VBUS (in), 10 ~{ACT} (out), 11 DCD (in), 12 DTR (out), 13 RTS (out), 14 DSR (in), 15 CTS (in), 16 RI (in), 17 GND (power)

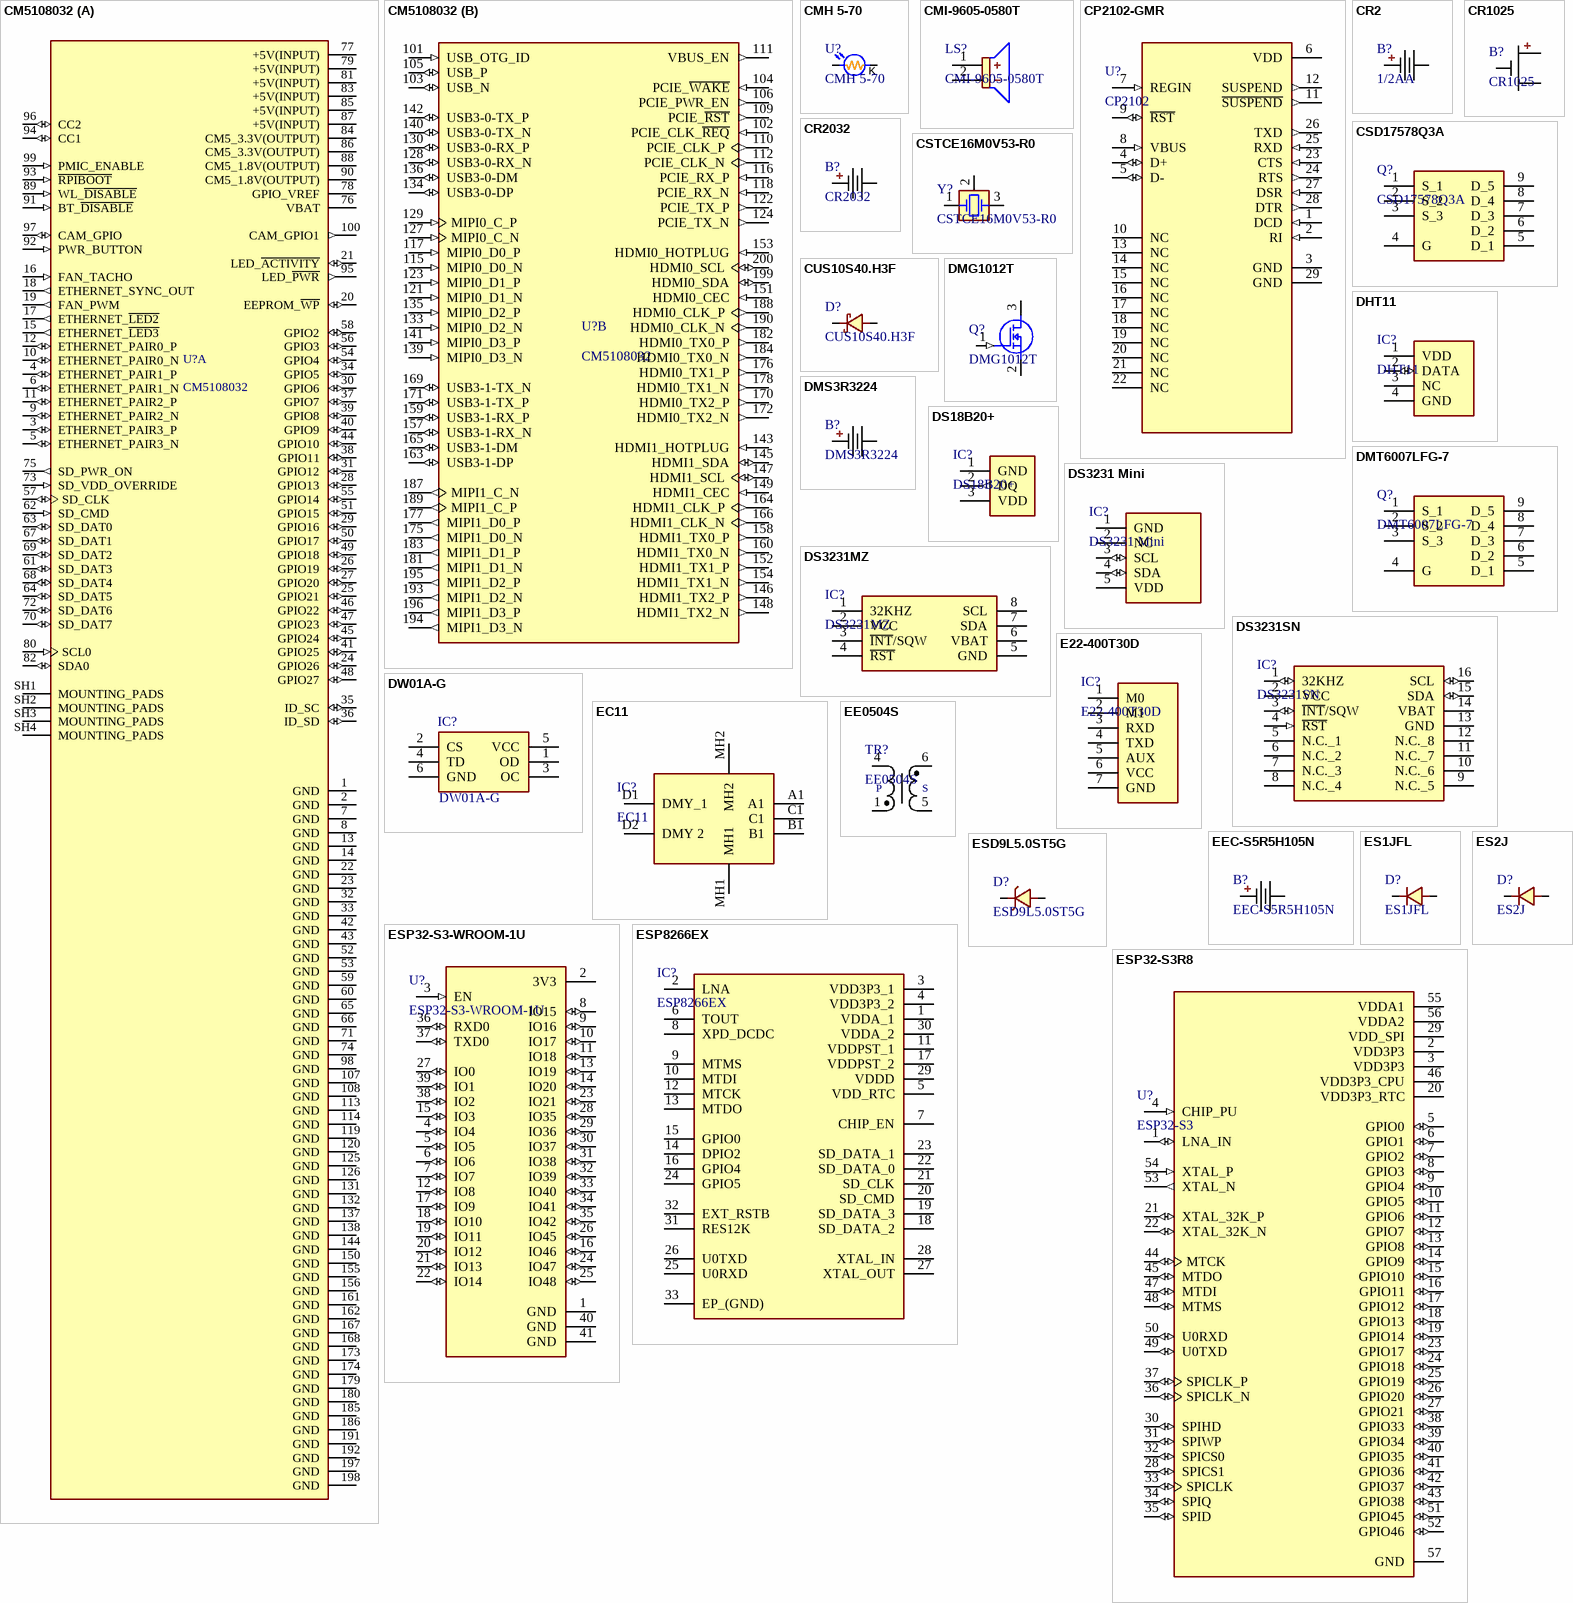
[diagram p2: symbols CM5108032 to ESP8266EX]

## CM5108032
designator U?
Embedded MCU, DSP Evaluation Board, Raspberry Pi Compute Module 5, Embedded MCU, DSP Evaluation Boards ROHS; Package: None; Price: None; Value: CM5108032; MP: CM5108032; Availability: Unavailable
footprint CM5108032_TH
footprint CM5108032_SMD
part A pins: 1 GND (power), 2 GND (power), 3 ETHERNET_PAIR3_P (io), 4 ETHERNET_PAIR1_P (io), 5 ETHERNET_PAIR3_N (io), 6 ETHERNET_PAIR1_N (io), 7 GND (power), 8 GND (power), 9 ETHERNET_PAIR2_N (io), 10 ETHERNET_PAIR0_N (io), 11 ETHERNET_PAIR2_P (io), 12 ETHERNET_PAIR0_P (io), 13 GND (power), 14 GND (power), 15 ETHERNET_~{LED3} (out), 16 FAN_TACHO (in), 17 ETHERNET_~{LED2} (out), 18 ETHERNET_SYNC_OUT (out), 19 FAN_PWM (out), 20 EEPROM_~{WP} (io), 21 LED_~{ACTIVITY} (io), 22 GND (power), 23 GND (power), 24 GPIO26 (io), 25 GPIO21 (io), 26 GPIO19 (io), 27 GPIO20 (io), 28 GPIO13 (io), 29 GPIO16 (io), 30 GPIO6 (io), 31 GPIO12 (io), 32 GND (power), 33 GND (power), 34 GPIO5 (io), 35 ID_SC (io), 36 ID_SD (io), 37 GPIO7 (io), 38 GPIO11 (io), 39 GPIO8 (io), 40 GPIO9 (io), 41 GPIO25 (io), 42 GND (power), 43 GND (power), 44 GPIO10 (io), 45 GPIO24 (io), 46 GPIO22 (io), 47 GPIO23 (io), 48 GPIO27 (io), 49 GPIO18 (io), 50 GPIO17 (io), 51 GPIO15 (io), 52 GND (power), 53 GND (power), 54 GPIO4 (io), 55 GPIO14 (io), 56 GPIO3 (io), 57 SD_CLK (io), 58 GPIO2 (io), 59 GND (power), 60 GND (power), 61 SD_DAT3 (io), 62 SD_CMD (in), 63 SD_DAT0 (io), 64 SD_DAT5 (io), 65 GND (power), 66 GND (power), 67 SD_DAT1 (io), 68 SD_DAT4 (io), 69 SD_DAT2 (io), 70 SD_DAT7 (io), 71 GND (power), 72 SD_DAT6 (io), 73 SD_VDD_OVERRIDE (in), 74 GND (power), 75 SD_PWR_ON (out), 76 VBAT (power), 77 +5V(INPUT) (power), 78 GPIO_VREF (power), 79 +5V(INPUT) (power), 80 SCL0 (in), 81 +5V(INPUT) (power), 82 SDA0 (io), 83 +5V(INPUT) (power), 84 CM5_3.3V(OUTPUT) (power), 85 +5V(INPUT) (power), 86 CM5_3.3V(OUTPUT) (power), 87 +5V(INPUT) (power), 88 CM5_1.8V(OUTPUT) (power), 89 WL_~{DISABLE} (in), 90 CM5_1.8V(OUTPUT) (power), 91 BT_~{DISABLE} (in), 92 PWR_BUTTON (in), 93 ~{RPIBOOT} (in), 94 CC1 (io), 95 LED_~{PWR} (out), 96 CC2 (io), 97 CAM_GPIO (io), 98 GND (power), 99 PMIC_ENABLE (in), 100 CAM_GPIO1 (out), 107 GND (power), 108 GND (power), 113 GND (power), 114 GND (power), 119 GND (power), 120 GND (power), 125 GND (power), 126 GND (power), 131 GND (power), 132 GND (power), 137 GND (power), 138 GND (power), 144 GND (power), 150 GND (power), 155 GND (power), 156 GND (power), 161 GND (power), 162 GND (power), 167 GND (power), 168 GND (power), 173 GND (power), 174 GND (power), 179 GND (power), 180 GND (power), 185 GND (power), 186 GND (power), 191 GND (power), 192 GND (power), 197 GND (power), 198 GND (power), SH1 MOUNTING_PADS, SH2 MOUNTING_PADS, SH3 MOUNTING_PADS, SH4 MOUNTING_PADS
part B pins: 101 USB_OTG_ID (in), 102 PCIE_CLK_~{REQ} (in), 103 USB_N (io), 104 PCIE_~{WAKE} (in), 105 USB_P (io), 106 PCIE_PWR_EN (out), 109 PCIE_~{RST} (out), 110 PCIE_CLK_P (out), 111 VBUS_EN (out), 112 PCIE_CLK_N (out), 115 MIPI0_D0_N (in), 116 PCIE_RX_P (in), 117 MIPI0_D0_P (in), 118 PCIE_RX_N (in), 121 MIPI0_D1_N (in), 122 PCIE_TX_P (out), 123 MIPI0_D1_P (in), 124 PCIE_TX_N (out), 127 MIPI0_C_N (in), 128 USB3-0-RX_N (io), 129 MIPI0_C_P (in), 130 USB3-0-RX_P (io), 133 MIPI0_D2_N (in), 134 USB3-0-DP (io), 135 MIPI0_D2_P (in), 136 USB3-0-DM (io), 139 MIPI0_D3_N (in), 140 USB3-0-TX_N (io), 141 MIPI0_D3_P (in), 142 USB3-0-TX_P (io), 143 HDMI1_HOTPLUG (in), 145 HDMI1_SDA (io), 146 HDMI1_TX2_P (out), 147 HDMI1_SCL (io), 148 HDMI1_TX2_N (out), 149 HDMI1_CEC (in), 151 HDMI0_CEC (in), 152 HDMI1_TX1_P (out), 153 HDMI0_HOTPLUG (in), 154 HDMI1_TX1_N (out), 157 USB3-1-RX_N (io), 158 HDMI1_TX0_P (out), 159 USB3-1-RX_P (io), 160 HDMI1_TX0_N (out), 163 USB3-1-DP (io), 164 HDMI1_CLK_P (out), 165 USB3-1-DM (io), 166 HDMI1_CLK_N (out), 169 USB3-1-TX_N (io), 170 HDMI0_TX2_P (out), 171 USB3-1-TX_P (io), 172 HDMI0_TX2_N (out), 175 MIPI1_D0_N (out), 176 HDMI0_TX1_P (out), 177 MIPI1_D0_P (out), 178 HDMI0_TX1_N (out), 181 MIPI1_D1_N (out), 182 HDMI0_TX0_P (out), 183 MIPI1_D1_P (out), 184 HDMI0_TX0_N (out), 187 MIPI1_C_N (out), 188 HDMI0_CLK_P (out), 189 MIPI1_C_P (out), 190 HDMI0_CLK_N (out), 193 MIPI1_D2_N (out), 194 MIPI1_D3_N (out), 195 MIPI1_D2_P (out), 196 MIPI1_D3_P (out), 199 HDMI0_SDA (io), 200 HDMI0_SCL (io)

## CMH 5-70
designator U?
Numitron Dot; Value: CMH 5-70
footprint CMH 5-70 (Indicator)
pins: 1, 2
text: K

## CMI-9605-0580T
designator LS?
Buzzer, D=9.6mm, 80dB, Active (Built-in Driver Circuit, Electromagnetic Type, 2.7kHz, Plugin, Buzzers, ROHS; Datasheet Link: https://componentsearchengine.com/Datasheets/1/CMI-9605-0580T.pdf; Height: 5mm; Value: CMI-9605-0580T
footprint CMI96050580T
pins: 1, 2

## CP2102-GMR
designator U?, comment CP2102
USB Converter, WQFN-28-EP(5x5), 12Mbps Transceiver, USB Converters, ROHS; MF: Silicon Labs; Purchase-URL: https://pricing.snapeda.com/search/part/CP2102/?ref=eda; Package: WFQFN-20 Silicon Labs; Value: CP2102; Check_prices: https://www.snapeda.com/parts/CP2102/Silicon+Labs/view-part/?ref=eda; SnapEDA_Link: https://www.snapeda.com/parts/CP2102/Silicon+Labs/view-part/?ref=snap; Availability: In Stock; Price: None; MP: CP2102
footprint QFN50P500X500X100-29N
pins: 1 DCD (in), 2 RI (in), 3 GND (power), 4 D+ (io), 5 D- (io), 6 VDD (power), 7 REGIN (in), 8 VBUS (in), 9 ~{RST} (io), 10 NC, 11 ~{SUSPEND} (out), 12 SUSPEND (out), 13 NC, 14 NC, 15 NC, 16 NC, 17 NC, 18 NC, 19 NC, 20 NC, 21 NC, 22 NC, 23 CTS (in), 24 RTS (out), 25 RXD (in), 26 TXD (out), 27 DSR (in), 28 DTR (out), 29 GND (power)

## CR2
designator B?, comment 1/2AA
Battery Holder CR2; Value: 1/2AA
footprint CR2 SMD + TH
pins: 1 (power), 2 (power)

## CR1025
designator B?
Battery Clip Coin, SMD, CR1025, Cell; Value: CR1025
footprint CR1025
footprint CR927
pins: 1 (power), 2 (power), 3 (power)

## CR2032
designator B?
Battery Holder CR2032; Value: CR2032
footprint CR2032 (CR2032 Battery Holder)
pins: 1 (power), 2 (power)

## CSD17578Q3A
designator Q?
MOSFET (N-Channel), PDFN3333-8, 30V, 20A, 8.2mΩ@4.5V, 10A, 37W, 1.5V, 1 N-Channel, MOSFETs ROHS; Manufacturer_Name: Texas Instruments; Datasheet Link: http://www.ti.com/lit/gpn/csd17552q3a; Manufacturer_Part_Number: CSD17578Q3A; Mouser Part Number: 595-CSD17578Q3A; Mouser Price/Stock: https://www.mouser.co.uk/ProductDetail/Texas-Instruments/CSD17578Q3A?qs=asCBFxFfL1QBcz2fz5OzJg%3D%3D; Arrow Part Number: CSD17578Q3A; Arrow Price/Stock: https://www.arrow.com/en/products/csd17578q3a/texas-instruments?region=nac; Value: CSD17578Q3A
footprint PDFN3333-8 (Footprint not found)
pins: 1 S_1, 2 S_2, 3 S_3, 4 G, 5 D_1, 6 D_2, 7 D_3, 8 D_4, 9 D_5

## CSTCE16M0V53-R0
designator Y?
Ceramic Resonators, SMD, SMD3213-3P, 3.2x1.3mm,16MHz, 15pF, 40Ω, Ceramic Resonators, ROHS; Datasheet Link: https://www.murata.com/en-sg/products/productdetail?partno=CSTCE16M0V53-R0; Height: 1mm; Value: CSTCE16M0V53-R0
footprint XTL_3_3213
pins: 1 XA, 2 GND1, 3 XB

## CUS10S40.H3F
designator D?
Diode Schottky, SMD, SOD-323, 40V, 1A, 450mV@1A, Independent Type, Schottky Diodes, ROHS; Manufacturer_Name: Rectron; Manufacturer_Part_Number: 1N4148W; Datasheet Link: https://www.rectron.com/public/product_datasheets/1n4148w.pdf; Height: 1.25mm; Mouser Part Number: 583-1N4148W; Mouser Price/Stock: https://www.mouser.co.uk/ProductDetail/Rectron/1N4148W?qs=rrS6PyfT74dlwuw0ST2zKA%3D%3D; Arrow Part Number: 1N4148W; Arrow Price/Stock: https://www.arrow.com/en/products/1n4148w/rectron?region=nac; Value: CUS10S40.H3F
footprint SOD-323
pins: 1 Kathode, 2 Anode

## DHT11
designator IC?
Temperature and Humidity Sensor, SIP-4, ROHS; Value: DHT11
footprint DHT11 (Temperature Sensor)
footprint DHT11 - SMD (Temperature Sensor)
pins: 1 VDD (power), 2 DATA (io), 3 NC, 4 GND (power)

## DMG1012T
designator Q?
MOSFET (N-Channel), SOT-523-3, 20V, 0.8A, 250mΩ@4.5V, 280mW, 750mV, 1 N-channel, MOSFETs, ROHS; Datasheet Link: https://www.diodes.com/assets/Datasheets/ds31783.pdf; Height: 0.8mm; Value: DMG1012T
footprint SOT50P160X80-3N
pins: 1 G (in), 2 S (power), 3 D (power)

## DMS3R3224
designator B?
Supercapacitor, SMD, 0.22F, 3.3V, D:6.8mm, H:1.8mm, P:2.0mm, Supercapacitors ROHs; Value: DMS3R3224
footprint DMS3R3224
pins: 1 (power), 2 (power)

## DMT6007LFG-7
designator Q?
MOSFET (N-Channel), PowerDI3333-8, 60V, 80A, 8.5mΩ@4.5V, 62.5W, 2V@250uA,  MOSFETs ROHS; Manufacturer_Name: Diodes Incorporated; Datasheet Link: https://www.diodes.com//assets/Datasheets/DMT6007LFG.pdf; Height: 0.8mm; Manufacturer_Part_Number: DMT6007LFG-7; Mouser Part Number: 621-DMT6007LFG-7; Mouser Price/Stock: https://www.mouser.co.uk/ProductDetail/Diodes-Incorporated/DMT6007LFG-7?qs=KdTYp8tcPglo5pZn%252BG%2Fo1Q%3D%3D; Arrow Part Number: DMT6007LFG-7; Arrow Price/Stock: null?region=nac; Value: DMT6007LFG-7
footprint PowerDI3333-8 (Footprint not found)
pins: 1 S_1, 2 S_2, 3 S_3, 4 G, 5 D_1, 6 D_2, 7 D_3, 8 D_4, 9 D_5

## DS18B20+
designator IC?
Temperature Sensor, THD, TO-92, 3V~5.5V, -55℃~+125℃, ±0.5, Single Bus, RoHS; Datasheet Link: https://ms.componentsearchengine.com/Datasheets/2/DS18B20+.pdf; Height: 4.95mm; Value: DS18B20+
footprint TO-92 (TO-92 Package)
pins: 1 GND (power), 2 DQ (out), 3 VDD (power)

## DS3231 Mini
designator IC?
Development Board, Real Time Clock; Value: DS3231 Mini
footprint DS3231 Mini (Mini Module)
footprint DS3231 Mini - Uspide Down (Mini Module)
footprint DS3231 Mini - Uspide Down - New (Mini Module)
pins: 1 GND (power), 2 NC, 3 SCL (io), 4 SDA (io), 5 VDD (power)

## DS3231MZ
designator IC?
Real Time Clock, SOIC-8, I2C, Real Time Clocks, ROHS; Datasheet Link: http://datasheets.maximintegrated.com/en/ds/DS3231M.pdf; Height: 1.75mm; Value: DS3231MZ
footprint SOIC127P600X175-8N
pins: 1 32KHZ, 2 VCC, 3 ~{INT}/SQW, 4 ~{RST}, 5 GND, 6 VBAT, 7 SDA, 8 SCL

## DS3231SN
designator IC?
Real Time Clock, SOIC-16-300mil, I2C, Real Time Clocks, ROHS; Datasheet Link: https://datasheet.datasheetarchive.com/originals/distributors/Datasheets-8/DSA-148585.pdf; Height: 2.65mm; Value: DS3231SN
footprint SOIC127P1032X265-16N
pins: 1 32KHZ (io), 2 VCC (power), 3 ~{INT}/SQW (io), 4 ~{RST} (in), 5 N.C._1 (power), 6 N.C._2 (power), 7 N.C._3 (power), 8 N.C._4 (power), 9 N.C._5 (power), 10 N.C._6 (power), 11 N.C._7 (power), 12 N.C._8 (power), 13 GND (power), 14 VBAT (power), 15 SDA (io), 16 SCL (io)

## DW01A-G
designator IC?
Battery Management, SOT-23-6, 1.5V~8V, Lithium-ion/Polymer, 1, Battery Management, ROHS; Manufacturer_Name: Fortune Semiconductor Corporation; Geometry.Height: 1.35mm; Manufacturer_Part_Number: DW01A-G; Mouser Part Number: *; Mouser Price/Stock: *; Arrow Part Number: *; Arrow Price/Stock: *; Datasheet Link: http://acoptex.com/uploads/DW01A.pdf; Value: DW01A-G
footprint SOT95P280X135-6N
pins: 1 OD, 2 CS, 3 OC, 4 TD, 5 VCC, 6 GND

## E22-400T30D
designator IC?
Development Board, -147dBm, 30dBm, 10km, UART, Plugin, LoRa Modules, ROHS; Value: E22-400T30D
footprint E22-400T30D
footprint E22-400T30D RIGHT ANGLE
pins: 1 M0 (power), 2 M1 (power), 3 RXD (power), 4 TXD (power), 5 AUX (power), 6 VCC (power), 7 GND (power)

## EC11
designator IC?
Rotary Encoder, Plugin, Rotary Encoders, ROHS; Datasheet Link: https://www.alps.com/prod/info/E/HTML/Encoder/Incremental/EC11/EC11E15204A3.html; Height: 24.5mm; Value: EC11
footprint EC11
pins: A1, B1, C1, D1 DMY_1, D2 DMY 2, MH1, MH2

## EE0504S
designator TR?
Power Transformer, SMD-5P, 1:10, 6.4x6.4mm, Power Transformers, ROHS; Value: EE0504S
footprint EE0504S
pins: 1, 4, 5, 6
text: P; S

## EEC-S5R5H105N
designator B?
Supercapacitor, Through Hole, 5.5V, 1F, Can - Horizontal, 30Ohm@1kHz, 1000Hrs@70°C; Value: EEC-S5R5H105N
footprint Ionictor (Supercapacitor 5.5 V Axial, Can - Horizontal 30Ohm @ 1kHz 1000 Hrs @ 70°C)
pins: 1 (power), 2 (power)

## ES1JFL
designator D?
Diode, SMD, SOD-123F, 600V, 1A, 22.55ns, 1.7V@1A, Independent Type,Fast Recovery / High Efficiency Diodes, ROHS; Manufacturer_Name: Taiwan Semiconductor; Manufacturer_Part_Number: ES1JFLRVG; Datasheet Link: https://www.mouser.in/datasheet/2/395/ES1DFL_SERIES_C1812-1918087.pdf; Height: 1.35mm; Value: ES1JFL
footprint SODFL3719X135N
pins: 1 Kathode, 2 Anode

## ES2J
designator D?
Diode, SMD, SMA(DO-214AC), 600V, 2A, 35ns, 1.7V@2A, Fast Recovery / High Efficiency Diodes, ROHS; Datasheet Link: https://datasheet.datasheetarchive.com/originals/distributors/Datasheets_SAMA/69e8bf8de77318eea2cba0fbdd4d29c0.pdf; Height: 2.44mm; Value: ES2J
footprint DO-214AC (SMD Diode Package)
footprint DO-214AC - SMA (SMD Diode Package)
footprint DO-41/DO-214AC_THD/SMD_SMD
footprint DO-41/DO-214AC_VERTICAL_SMD/THD_SMD (DO-41 Package)
pins: 1 Kathode, 2 Anode

## ESD9L5.0ST5G
designator D?
ESD and Surge Protection (TVS/ESD), SMD, SOD-923, 5V, 1A, 9.8V, 5.4V, Unidirectional, ESD and Surge Protection (TVS/ESD), ROHS; Datasheet Link: https://datasheet.datasheetarchive.com/originals/distributors/Datasheets_SAMA/69e8bf8de77318eea2cba0fbdd4d29c0.pdf; Height: 2.44mm; Value: ESD9L5.0ST5G
footprint SOD-923
pins: 1 Kathode, 2 Anode

## ESP32-S3-WROOM-1U
designator U?
Development Board, SMD, 18x19.2mm, 2.4GHz Wi-Fi (802.11 b/g/n) and Bluetooth 5 (LE) module, WiFi Modules, ROHS; Value: ESP32-S3-WROOM-1U; Package: Package
footprint XCVR_ESP32-S3-WROOM-1U
footprint XCVR_ESP32-S3-WROOM-1-N16R2
pins: 1 GND (power), 2 3V3 (power), 3 EN (in), 4 IO4 (io), 5 IO5 (io), 6 IO6 (io), 7 IO7 (io), 8 IO15 (io), 9 IO16 (io), 10 IO17 (io), 11 IO18 (io), 12 IO8 (io), 13 IO19 (io), 14 IO20 (io), 15 IO3 (io), 16 IO46 (io), 17 IO9 (io), 18 IO10 (io), 19 IO11 (io), 20 IO12 (io), 21 IO13 (io), 22 IO14 (io), 23 IO21 (io), 24 IO47 (io), 25 IO48 (io), 26 IO45 (io), 27 IO0 (io), 28 IO35 (io), 29 IO36 (io), 30 IO37 (io), 31 IO38 (io), 32 IO39 (io), 33 IO40 (io), 34 IO41 (io), 35 IO42 (io), 36 RXD0 (io), 37 TXD0 (io), 38 IO2 (io), 39 IO1 (io), 40 GND (power), 41 GND (power)

## ESP32-S3R8
designator U?, comment ESP32-S3
Microcontroller, QFN-56(7x7), 150Mbps, 2412MHz~2484MHz, 2.4GHz, RF Transceiver ICs, ROHS; Value: ESP32-S3; Package: None
footprint IC_ESP32-S3
pins: 1 LNA_IN (io), 2 VDD3P3 (power), 3 VDD3P3 (power), 4 CHIP_PU (in), 5 GPIO0 (io), 6 GPIO1 (io), 7 GPIO2 (io), 8 GPIO3 (io), 9 GPIO4 (io), 10 GPIO5 (io), 11 GPIO6 (io), 12 GPIO7 (io), 13 GPIO8 (io), 14 GPIO9 (io), 15 GPIO10 (io), 16 GPIO11 (io), 17 GPIO12 (io), 18 GPIO13 (io), 19 GPIO14 (io), 20 VDD3P3_RTC (power), 21 XTAL_32K_P (io), 22 XTAL_32K_N (io), 23 GPIO17 (io), 24 GPIO18 (io), 25 GPIO19 (io), 26 GPIO20 (io), 27 GPIO21 (io), 28 SPICS1 (io), 29 VDD_SPI (power), 30 SPIHD (io), 31 SPIWP (io), 32 SPICS0 (io), 33 SPICLK (io), 34 SPIQ (io), 35 SPID (io), 36 SPICLK_N (io), 37 SPICLK_P (io), 38 GPIO33 (io), 39 GPIO34 (io), 40 GPIO35 (io), 41 GPIO36 (io), 42 GPIO37 (io), 43 GPIO38 (io), 44 MTCK (io), 45 MTDO (io), 46 VDD3P3_CPU (power), 47 MTDI (io), 48 MTMS (io), 49 U0TXD (io), 50 U0RXD (io), 51 GPIO45 (io), 52 GPIO46 (io), 53 XTAL_N (out), 54 XTAL_P (in), 55 VDDA1 (power), 56 VDDA2 (power), 57 GND (power)

## ESP8266EX
designator IC?
Microcontroller, QFN-32-EP(5x5), 72.2Mbps, 2400MHz~2483.5MHz, WiFi 2.4GHz, RF Transceiver ICs, ROHS; Height: 0.9mm; Value: ESP8266EX
footprint QFN50P500X500X90-33N-D
pins: 1 VDDA_1, 2 LNA, 3 VDD3P3_1, 4 VDD3P3_2, 5 VDD_RTC, 6 TOUT, 7 CHIP_EN, 8 XPD_DCDC, 9 MTMS, 10 MTDI, 11 VDDPST_1, 12 MTCK, 13 MTDO, 14 DPIO2, 15 GPIO0, 16 GPIO4, 17 VDDPST_2, 18 SD_DATA_2, 19 SD_DATA_3, 20 SD_CMD, 21 SD_CLK, 22 SD_DATA_0, 23 SD_DATA_1, 24 GPIO5, 25 U0RXD, 26 U0TXD, 27 XTAL_OUT, 28 XTAL_IN, 29 VDDD, 30 VDDA_2, 31 RES12K, 32 EXT_RSTB, 33 EP_(GND)

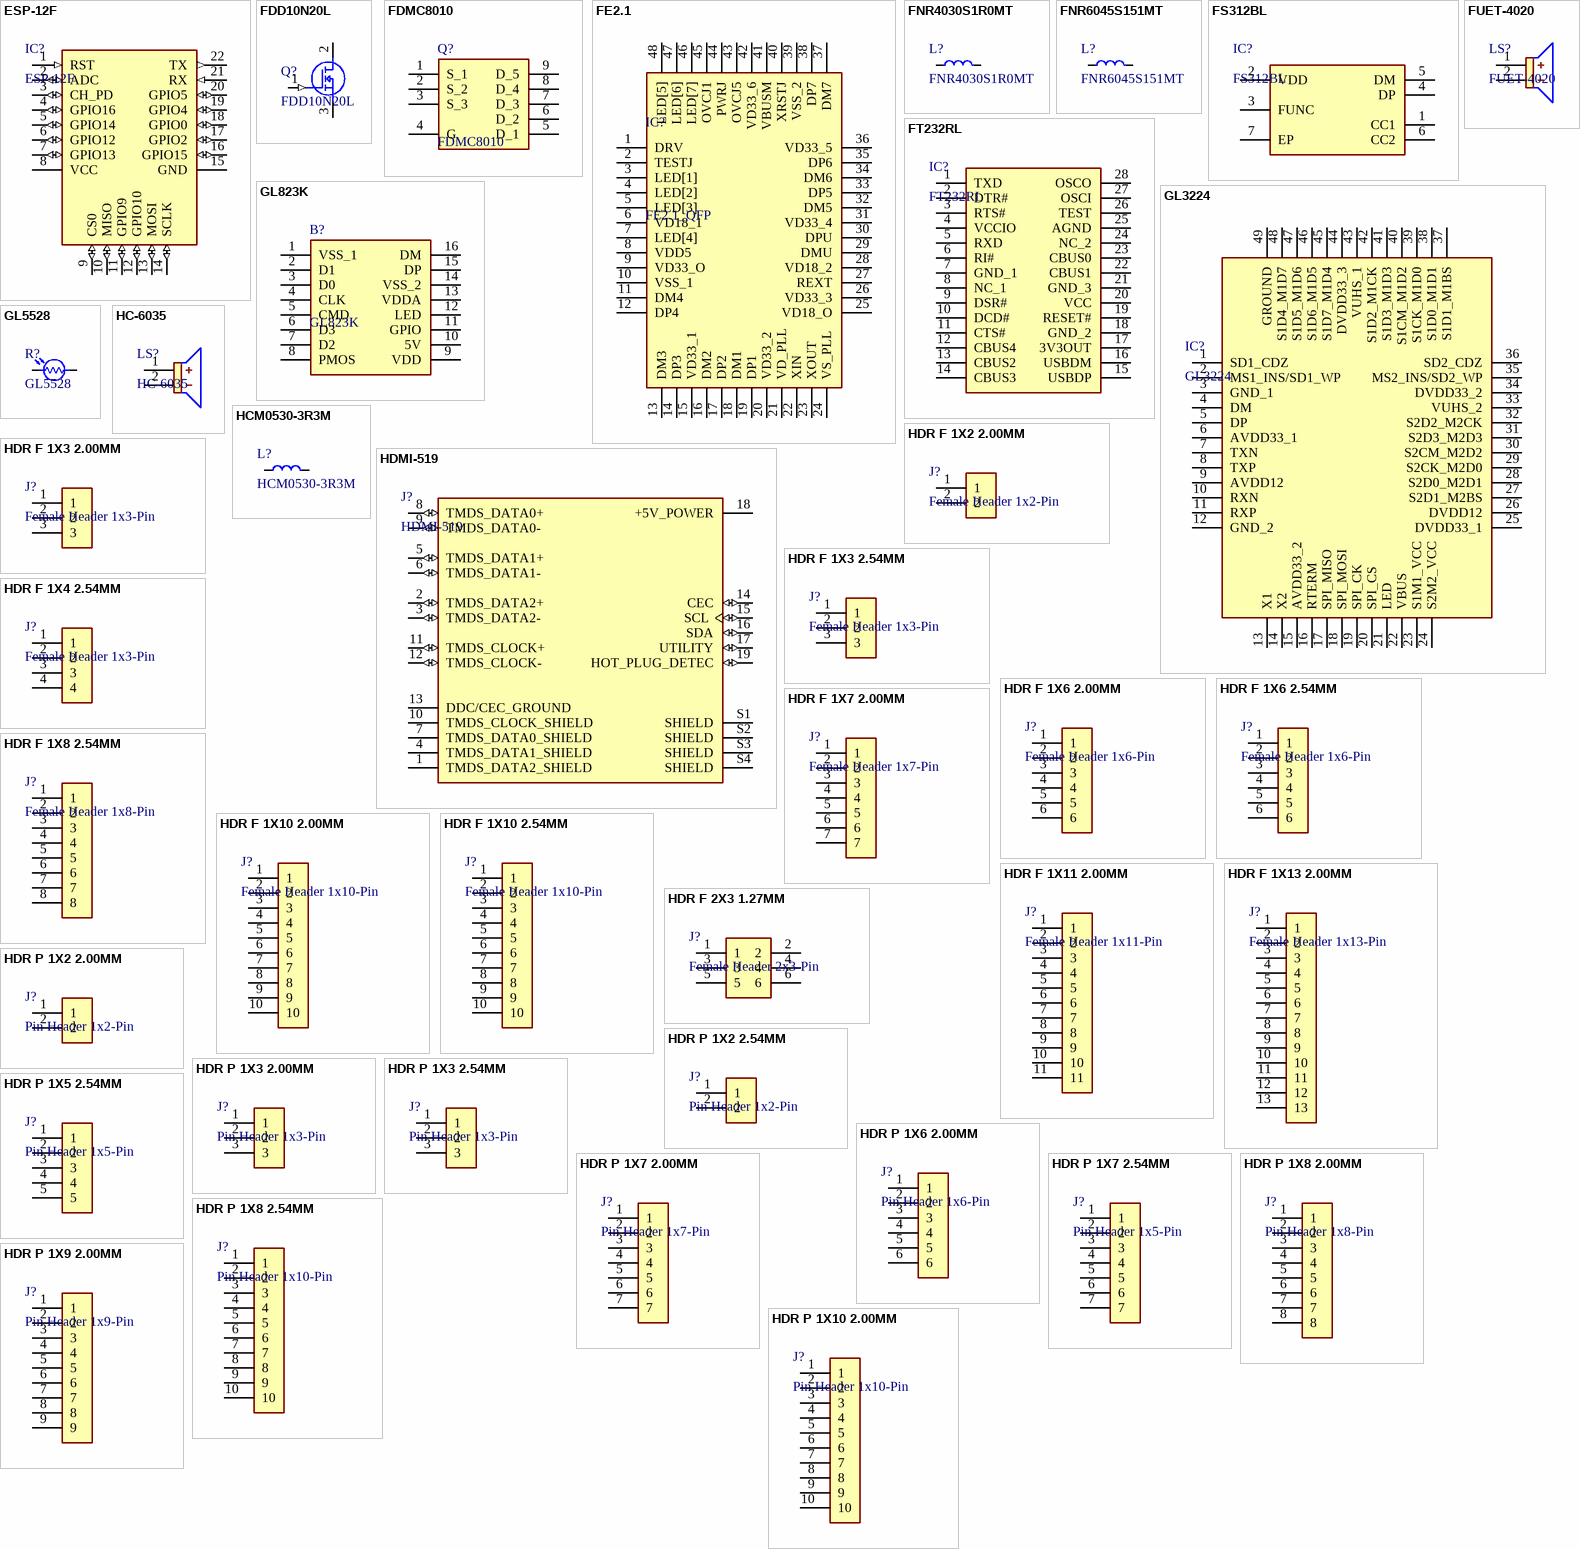
[diagram p3: symbols ESP-12F to HDR P 1X10 2.00MM]

## ESP-12F
designator IC?
Development Board, 16x24mm, -90dBm, 16dBm, ESP8266 chip On-board, PCB antenna 2.4GHz, SMD, WiFi Modules, ROHS; Manufacturer_Name: Adafruit; Datasheet Link: https://www.waveshare.com/w/upload/a/a0/ESP-12F-datasheets.pdf; Height: 3.1mm; Manufacturer_Part_Number: ESP-12F; Value: ESP-12F
footprint ESP12F
pins: 1 RST (in), 2 ADC (io), 3 CH_PD (io), 4 GPIO16 (io), 5 GPIO14 (io), 6 GPIO12 (io), 7 GPIO13 (io), 8 VCC (power), 9 CS0 (io), 10 MISO (io), 11 GPIO9 (io), 12 GPIO10 (io), 13 MOSI (io), 14 SCLK (io), 15 GND (power), 16 GPIO15 (io), 17 GPIO2 (io), 18 GPIO0 (io), 19 GPIO4 (io), 20 GPIO5 (io), 21 RX (in), 22 TX (out)

## FDD10N20L
designator Q?
MOSFET (N-Channel), TO-252, 200V, 10A, 96W, 4V, 1 N-channel, MOSFETs, ROHS; Datasheet Link: https://www.onsemi.com/pub/Collateral/FDD10N20LZ-D.pdf; Value: FDD10N20L
footprint TO-252 (SMD Package)
footprint TO-220 WITH SMD
pins: 1 G (in), 2 D (power), 3 S (power)

## FDMC8010
designator Q?
MOSFET (N-Channel), PQFN-8(3.3x3.3), 30V, 75A,54W, 1.8mΩ@4.5V, 2.5V, 1 N-Channel, MOSFETs ROHS; Manufacturer_Name: onsemi; Geometry.Height: 0.8mm; Manufacturer_Part_Number: FDMC8010; Mouser Part Number: 512-FDMC8010; Mouser Price/Stock: https://www.mouser.co.uk/ProductDetail/onsemi-Fairchild/FDMC8010?qs=BiJXFBt7cx1GJPIblT9OBw%3D%3D; Arrow Part Number: FDMC8010; Arrow Price/Stock: https://www.arrow.com/en/products/fdmc8010/on-semiconductor?region=nac; Datasheet Link: https://www.onsemi.com/pub/Collateral/FDMC8010-D.PDF; Value: FDMC8010
footprint PQFN-8(3.3x3.3)
pins: 1 S_1, 2 S_2, 3 S_3, 4 G, 5 D_1, 6 D_2, 7 D_3, 8 D_4, 9 D_5